# Altium footprint library NSC Audio.PcbLib: 145 footprints (part 9 of 10)
Each footprint in its own frame and in the unit in brackets; x right, y up, seen from the top. Pads: shape width x height; smd on the part's side, far side on the other; paste and mask are expansions set on the pad; w line width, h text height; cw(c..) or ccw(c..) is an arc to the next point about the centre after c.
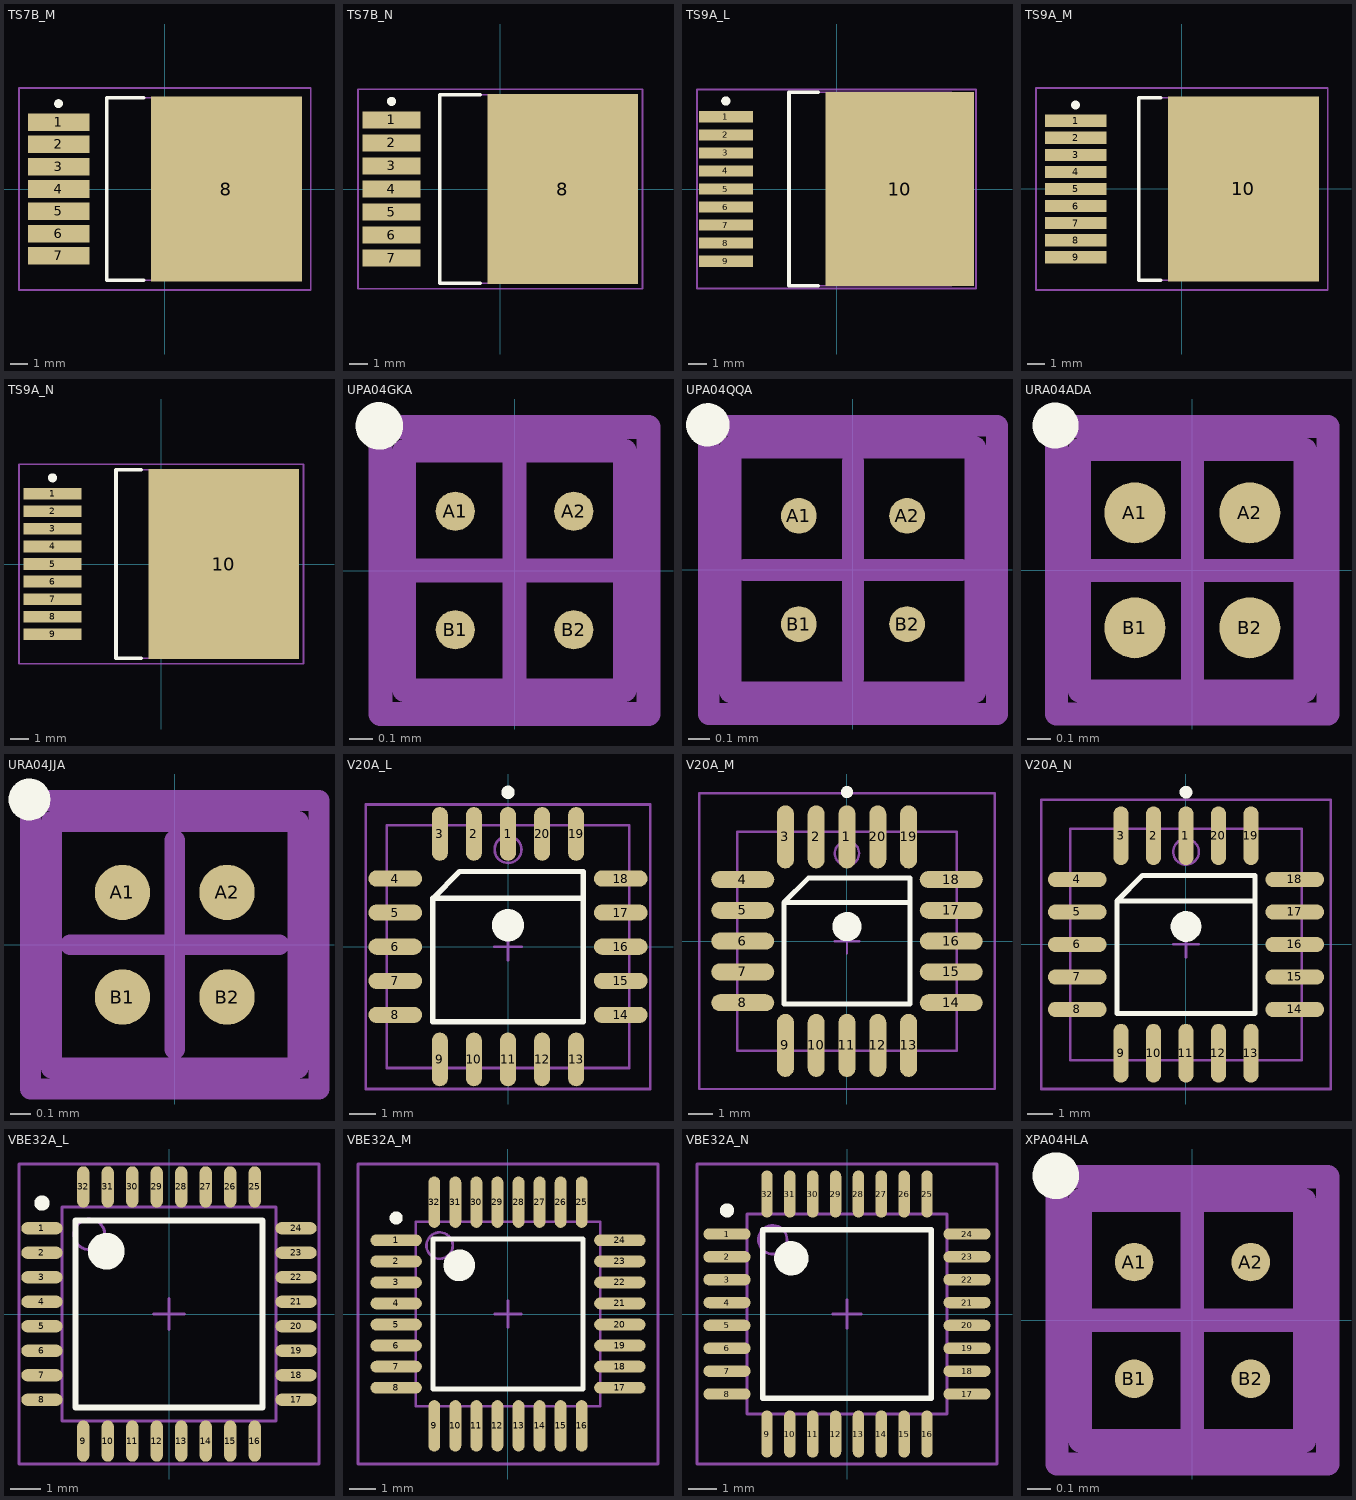
[diagram p8: the footprints below, top view; thin cyan lines are the x and y axes]

## TS7B_M [mm] "D2-PAK, 8-Leads, Body 8.6x10.2mm, Pitch 1.27mm, Lead Span 14.1mm, IPC Low Density"
height 4.64
pads (8):
  rect 3.5x1 smd: 1(-6.05,3.81) 2(-6.05,2.54) 3(-6.05,1.27) 4(-6.05,0) 5(-6.05,-1.27) 6(-6.05,-2.54) 7(-6.05,-3.81)
  rect 8.6x10.55 smd: 8(3.5,0)
Top Overlay:
  circle w0.25: c-6.05,4.86 r0.125
  lines w0.2: -1.2,-5.2 -3.3,-5.2 -3.3,5.2 -1.2,5.2
Mechanical 13:
  lines w0.1: -3.3,-5.2 -3.3,5.2 6.1,5.2 6.1,-5.2 -3.3,-5.2
Mechanical 15:
  lines w0.1: -0.5,0 0.5,0 ; 0,-0.5 0,0.5 ; -8.3,-5.75 -8.3,5.75 8.3,5.75 8.3,-5.75 -8.3,-5.75
3D body: height 4.64, standoff 0, extent -3.3,-5.2 6.1,5.2

## TS7B_N [mm] "D2-PAK, 8-Leads, Body 8.6x10.2mm, Pitch 1.27mm, Lead Span 14.1mm, IPC Medium Density"
height 4.64
pads (8):
  rect 3.2x0.95 smd: 1(-6,3.81) 2(-6,2.54) 3(-6,1.27) 4(-6,0) 5(-6,-1.27) 6(-6,-2.54) 7(-6,-3.81)
  rect 8.3x10.5 smd: 8(3.45,0)
Top Overlay:
  circle w0.25: c-6,4.835 r0.125
  lines w0.2: -1.1,-5.2 -3.35,-5.2 -3.35,5.2 -1.1,5.2
Mechanical 13:
  lines w0.1: -3.35,-5.2 -3.35,5.2 6.05,5.2 6.05,-5.2 -3.35,-5.2
Mechanical 15:
  lines w0.1: -0.5,0 0.5,0 ; 0,-0.5 0,0.5 ; -7.85,-5.5 -7.85,5.5 7.85,5.5 7.85,-5.5 -7.85,-5.5
3D body: height 4.64, standoff 0, extent -3.35,-5.2 6.05,5.2

## TS9A_L [mm] "D2-PAK, 10-Leads, Body 8.7x10.2mm, Pitch 0.97mm, Lead Span 14.1mm, IPC High Density"
height 4.62
pads (10):
  rect 2.9x0.6 smd: 1(-5.95,3.88) 2(-5.95,2.91) 3(-5.95,1.94) 4(-5.95,0.97) 5(-5.95,0) 6(-5.95,-0.97) 7(-5.95,-1.94) 8(-5.95,-2.91) 9(-5.95,-3.88)
  rect 8x10.45 smd: 10(3.4,0)
Top Overlay:
  circle w0.25: c-5.95,4.73 r0.125
  lines w0.2: -1,-5.2 -2.55,-5.2 -2.55,5.2 -1,5.2
Mechanical 13:
  lines w0.1: -2.55,-5.2 6.19,-5.2 6.19,5.2 -2.55,5.2 -2.55,-5.2
Mechanical 15:
  lines w0.1: -0.5,0 0.5,0 ; 0,-0.5 0,0.5 ; -7.5,-5.35 7.5,-5.35 7.5,5.35 -7.5,5.35 -7.5,-5.35
3D body: height 4.62, standoff 0, extent -2.55,-5.2 6.19,5.2

## TS9A_M [mm] "D2-PAK, 10-Leads, Body 8.7x10.2mm, Pitch 0.97mm, Lead Span 14.1mm, IPC Low Density"
height 4.62
pads (10):
  rect 3.5x0.7 smd: 1(-6.05,3.88) 2(-6.05,2.91) 3(-6.05,1.94) 4(-6.05,0.97) 5(-6.05,0) 6(-6.05,-0.97) 7(-6.05,-1.94) 8(-6.05,-2.91) 9(-6.05,-3.88)
  rect 8.6x10.55 smd: 10(3.5,0)
Top Overlay:
  circle w0.25: c-6.05,4.78 r0.125
  lines w0.2: -1.2,-5.2 -2.45,-5.2 -2.45,5.2 -1.2,5.2
Mechanical 13:
  lines w0.1: -2.45,-5.2 6.29,-5.2 6.29,5.2 -2.45,5.2 -2.45,-5.2
Mechanical 15:
  lines w0.1: -0.5,0 0.5,0 ; 0,-0.5 0,0.5 ; -8.3,-5.75 8.3,-5.75 8.3,5.75 -8.3,5.75 -8.3,-5.75
3D body: height 4.62, standoff 0, extent -2.45,-5.2 6.29,5.2

## TS9A_N [mm] "D2-PAK, 10-Leads, Body 8.7x10.2mm, Pitch 0.97mm, Lead Span 14.1mm, IPC Medium Density"
height 4.62
pads (10):
  rect 3.2x0.65 smd: 1(-6,3.88) 2(-6,2.91) 3(-6,1.94) 4(-6,0.97) 5(-6,0) 6(-6,-0.97) 7(-6,-1.94) 8(-6,-2.91) 9(-6,-3.88)
  rect 8.3x10.5 smd: 10(3.45,0)
Top Overlay:
  circle w0.25: c-6,4.755 r0.125
  lines w0.2: -1.1,-5.2 -2.5,-5.2 -2.5,5.2 -1.1,5.2
Mechanical 13:
  lines w0.1: -2.5,-5.2 6.24,-5.2 6.24,5.2 -2.5,5.2 -2.5,-5.2
Mechanical 15:
  lines w0.1: -0.5,0 0.5,0 ; 0,-0.5 0,0.5 ; -7.85,-5.5 7.85,-5.5 7.85,5.5 -7.85,5.5 -7.85,-5.5
3D body: height 4.62, standoff 0, extent -2.5,-5.2 6.24,5.2

## UPA04GKA [mm] "Micro SMD, 4-Leads, Body 1.01x0.93mm, Pitch 0.5mm, NSC Recommended"
height 0.4
pads (4):
  round 0.165 smd paste-0.082 mask+0.05: A1(-0.25,0.25) A2(0.25,0.25) B1(-0.25,-0.25) B2(0.25,-0.25)
Top Overlay:
  circle w0.1: c-0.57,0.61 r0.05
Top Paste:
  circle w0.05: c-0.175,0.175 r0.025
  circle w0.05: c-0.375,0.375 r0.025
  circle w0.05: c-0.175,0.375 r0.025
  circle w0.05: c-0.375,0.175 r0.025
  circle w0.05: c0.375,0.175 r0.025
  circle w0.05: c0.175,0.375 r0.025
  circle w0.05: c0.375,0.375 r0.025
  circle w0.05: c0.175,0.175 r0.025
  circle w0.05: c-0.175,-0.375 r0.025
  circle w0.05: c-0.375,-0.175 r0.025
  circle w0.05: c-0.175,-0.175 r0.025
  circle w0.05: c-0.375,-0.375 r0.025
  circle w0.05: c0.375,-0.375 r0.025
  circle w0.05: c0.175,-0.175 r0.025
  circle w0.05: c0.375,-0.175 r0.025
  circle w0.05: c0.175,-0.375 r0.025
  region: -0.175,0.375 -0.175,0.175 -0.125,0.175 -0.125,0.375
  region: -0.375,0.175 -0.375,0.375 -0.425,0.375 -0.425,0.175
  rectangle: -0.375,0.375 -0.175,0.425
  rectangle: -0.375,0.175 -0.175,0.375
  region: -0.175,0.175 -0.375,0.175 -0.375,0.125 -0.175,0.125
  region: 0.375,0.375 0.375,0.175 0.425,0.175 0.425,0.375
  region: 0.175,0.175 0.175,0.375 0.125,0.375 0.125,0.175
  rectangle: 0.175,0.375 0.375,0.425
  rectangle: 0.175,0.175 0.375,0.375
  region: 0.375,0.175 0.175,0.175 0.175,0.125 0.375,0.125
  region: -0.175,-0.175 -0.175,-0.375 -0.125,-0.375 -0.125,-0.175
  region: -0.375,-0.375 -0.375,-0.175 -0.425,-0.175 -0.425,-0.375
  rectangle: -0.375,-0.175 -0.175,-0.125
  rectangle: -0.375,-0.375 -0.175,-0.175
  region: -0.175,-0.375 -0.375,-0.375 -0.375,-0.425 -0.175,-0.425
  region: 0.375,-0.175 0.375,-0.375 0.425,-0.375 0.425,-0.175
  region: 0.175,-0.375 0.175,-0.175 0.125,-0.175 0.125,-0.375
  rectangle: 0.175,-0.175 0.375,-0.125
  rectangle: 0.175,-0.375 0.375,-0.175
  region: 0.375,-0.375 0.175,-0.375 0.175,-0.425 0.375,-0.425
Mechanical 13:
  lines w0.1: -0.465,-0.505 -0.465,0.505 0.465,0.505 0.465,-0.505 -0.465,-0.505
Mechanical 15:
  lines w0.1: -0.5,0 0.5,0 ; 0,-0.5 0,0.5 ; -0.565,-0.605 -0.565,0.605 0.565,0.605 0.565,-0.605 -0.565,-0.605
3D body: height 0.4, standoff 0, extent -0.465,-0.505 0.465,0.505

## UPA04QQA [mm] "Micro SMD, 4-Leads, Body 1.13x1.13mm, Pitch 0.5mm, NSC Recommended"
height 0.4
pads (4):
  round 0.165 smd paste-0.082 mask+0.05: A1(-0.25,0.25) A2(0.25,0.25) B1(-0.25,-0.25) B2(0.25,-0.25)
Top Overlay:
  circle w0.1: c-0.67,0.67 r0.05
Top Paste:
  circle w0.05: c0.175,-0.375 r0.025
  circle w0.05: c0.375,-0.175 r0.025
  circle w0.05: c0.175,-0.175 r0.025
  circle w0.05: c0.375,-0.375 r0.025
  circle w0.05: c-0.375,-0.375 r0.025
  circle w0.05: c-0.175,-0.175 r0.025
  circle w0.05: c-0.375,-0.175 r0.025
  circle w0.05: c-0.175,-0.375 r0.025
  circle w0.05: c0.175,0.175 r0.025
  circle w0.05: c0.375,0.375 r0.025
  circle w0.05: c0.175,0.375 r0.025
  circle w0.05: c0.375,0.175 r0.025
  circle w0.05: c-0.375,0.175 r0.025
  circle w0.05: c-0.175,0.375 r0.025
  circle w0.05: c-0.375,0.375 r0.025
  circle w0.05: c-0.175,0.175 r0.025
  region: 0.375,-0.375 0.175,-0.375 0.175,-0.425 0.375,-0.425
  rectangle: 0.175,-0.375 0.375,-0.175
  rectangle: 0.175,-0.175 0.375,-0.125
  region: 0.175,-0.375 0.175,-0.175 0.125,-0.175 0.125,-0.375
  region: 0.375,-0.175 0.375,-0.375 0.425,-0.375 0.425,-0.175
  region: -0.175,-0.375 -0.375,-0.375 -0.375,-0.425 -0.175,-0.425
  rectangle: -0.375,-0.375 -0.175,-0.175
  rectangle: -0.375,-0.175 -0.175,-0.125
  region: -0.375,-0.375 -0.375,-0.175 -0.425,-0.175 -0.425,-0.375
  region: -0.175,-0.175 -0.175,-0.375 -0.125,-0.375 -0.125,-0.175
  region: 0.375,0.175 0.175,0.175 0.175,0.125 0.375,0.125
  rectangle: 0.175,0.175 0.375,0.375
  rectangle: 0.175,0.375 0.375,0.425
  region: 0.175,0.175 0.175,0.375 0.125,0.375 0.125,0.175
  region: 0.375,0.375 0.375,0.175 0.425,0.175 0.425,0.375
  region: -0.175,0.175 -0.375,0.175 -0.375,0.125 -0.175,0.125
  rectangle: -0.375,0.175 -0.175,0.375
  rectangle: -0.375,0.375 -0.175,0.425
  region: -0.375,0.175 -0.375,0.375 -0.425,0.375 -0.425,0.175
  region: -0.175,0.375 -0.175,0.175 -0.125,0.175 -0.125,0.375
Mechanical 13:
  lines w0.1: -0.565,-0.565 0.565,-0.565 0.565,0.565 -0.565,0.565 -0.565,-0.565
Mechanical 15:
  lines w0.1: -0.5,0 0.5,0 ; 0,-0.5 0,0.5 ; -0.665,-0.665 0.665,-0.665 0.665,0.665 -0.665,0.665 -0.665,-0.665
3D body: height 0.4, standoff 0, extent -0.565,-0.565 0.565,0.565

## URA04ADA [mm] "Micro SMD, 4-Leads, Body 1.05x0.98mm, Pitch 0.5mm, NSC Recommended"
height 0.43
pads (4):
  round 0.265 smd paste-0.132 mask+0.05: A1(-0.25,0.25) A2(0.25,0.25) B1(-0.25,-0.25) B2(0.25,-0.25)
Top Overlay:
  circle w0.1: c-0.595,0.63 r0.05
Top Paste:
  circle w0.05: c0.2,-0.2 r0.025
  circle w0.05: c0.35,-0.35 r0.025
  circle w0.05: c0.35,-0.2 r0.025
  circle w0.05: c0.2,-0.35 r0.025
  circle w0.05: c-0.35,-0.2 r0.025
  circle w0.05: c-0.2,-0.35 r0.025
  circle w0.05: c-0.2,-0.2 r0.025
  circle w0.05: c-0.35,-0.35 r0.025
  circle w0.05: c0.2,0.35 r0.025
  circle w0.05: c0.35,0.2 r0.025
  circle w0.05: c0.35,0.35 r0.025
  circle w0.05: c0.2,0.2 r0.025
  circle w0.05: c-0.35,0.35 r0.025
  circle w0.05: c-0.2,0.2 r0.025
  circle w0.05: c-0.2,0.35 r0.025
  circle w0.05: c-0.35,0.2 r0.025
  region: 0.35,-0.35 0.2,-0.35 0.2,-0.4 0.35,-0.4
  region: 0.35,-0.2 0.35,-0.35 0.4,-0.35 0.4,-0.2
  rectangle: 0.2,-0.2 0.35,-0.15
  region: 0.2,-0.35 0.2,-0.2 0.15,-0.2 0.15,-0.35
  region: 0.2,-0.2 0.2,-0.35 0.35,-0.35 0.35,-0.2
  region: -0.2,-0.35 -0.35,-0.35 -0.35,-0.4 -0.2,-0.4
  region: -0.2,-0.2 -0.2,-0.35 -0.15,-0.35 -0.15,-0.2
  rectangle: -0.35,-0.2 -0.2,-0.15
  region: -0.35,-0.35 -0.35,-0.2 -0.4,-0.2 -0.4,-0.35
  region: -0.35,-0.2 -0.35,-0.35 -0.2,-0.35 -0.2,-0.2
  region: 0.35,0.2 0.2,0.2 0.2,0.15 0.35,0.15
  region: 0.35,0.35 0.35,0.2 0.4,0.2 0.4,0.35
  rectangle: 0.2,0.35 0.35,0.4
  region: 0.2,0.2 0.2,0.35 0.15,0.35 0.15,0.2
  region: 0.2,0.35 0.2,0.2 0.35,0.2 0.35,0.35
  region: -0.2,0.2 -0.35,0.2 -0.35,0.15 -0.2,0.15
  region: -0.2,0.35 -0.2,0.2 -0.15,0.2 -0.15,0.35
  rectangle: -0.35,0.35 -0.2,0.4
  region: -0.35,0.2 -0.35,0.35 -0.4,0.35 -0.4,0.2
  region: -0.35,0.35 -0.35,0.2 -0.2,0.2 -0.2,0.35
Mechanical 13:
  lines w0.1: -0.49,-0.525 0.49,-0.525 0.49,0.525 -0.49,0.525 -0.49,-0.525
Mechanical 15:
  lines w0.1: -0.5,0 0.5,0 ; 0,-0.5 0,0.5 ; -0.59,-0.625 0.59,-0.625 0.59,0.625 -0.59,0.625 -0.59,-0.625
3D body: height 0.43, standoff 0, extent -0.49,-0.525 0.49,0.525

## URA04JJA [mm] "Micro SMD, 4-Leads, Body 1.18x1.18mm, Pitch 0.5mm, NSC Recommended"
height 0.43
pads (4):
  round 0.265 smd paste-0.132 mask+0.05: A1(-0.25,0.25) A2(0.25,0.25) B1(-0.25,-0.25) B2(0.25,-0.25)
Top Overlay:
  circle w0.1: c-0.695,0.695 r0.05
Top Paste:
  circle w0.05: c-0.35,0.2 r0.025
  circle w0.05: c-0.2,0.35 r0.025
  circle w0.05: c-0.2,0.2 r0.025
  circle w0.05: c-0.35,0.35 r0.025
  circle w0.05: c0.2,0.2 r0.025
  circle w0.05: c0.35,0.35 r0.025
  circle w0.05: c0.35,0.2 r0.025
  circle w0.05: c0.2,0.35 r0.025
  circle w0.05: c-0.35,-0.35 r0.025
  circle w0.05: c-0.2,-0.2 r0.025
  circle w0.05: c-0.2,-0.35 r0.025
  circle w0.05: c-0.35,-0.2 r0.025
  circle w0.05: c0.2,-0.35 r0.025
  circle w0.05: c0.35,-0.2 r0.025
  circle w0.05: c0.35,-0.35 r0.025
  circle w0.05: c0.2,-0.2 r0.025
  region: -0.35,0.35 -0.35,0.2 -0.2,0.2 -0.2,0.35
  region: -0.35,0.2 -0.35,0.35 -0.4,0.35 -0.4,0.2
  rectangle: -0.35,0.35 -0.2,0.4
  region: -0.2,0.35 -0.2,0.2 -0.15,0.2 -0.15,0.35
  region: -0.2,0.2 -0.35,0.2 -0.35,0.15 -0.2,0.15
  region: 0.2,0.35 0.2,0.2 0.35,0.2 0.35,0.35
  region: 0.2,0.2 0.2,0.35 0.15,0.35 0.15,0.2
  rectangle: 0.2,0.35 0.35,0.4
  region: 0.35,0.35 0.35,0.2 0.4,0.2 0.4,0.35
  region: 0.35,0.2 0.2,0.2 0.2,0.15 0.35,0.15
  region: -0.35,-0.2 -0.35,-0.35 -0.2,-0.35 -0.2,-0.2
  region: -0.35,-0.35 -0.35,-0.2 -0.4,-0.2 -0.4,-0.35
  rectangle: -0.35,-0.2 -0.2,-0.15
  region: -0.2,-0.2 -0.2,-0.35 -0.15,-0.35 -0.15,-0.2
  region: -0.2,-0.35 -0.35,-0.35 -0.35,-0.4 -0.2,-0.4
  region: 0.2,-0.2 0.2,-0.35 0.35,-0.35 0.35,-0.2
  region: 0.2,-0.35 0.2,-0.2 0.15,-0.2 0.15,-0.35
  rectangle: 0.2,-0.2 0.35,-0.15
  region: 0.35,-0.2 0.35,-0.35 0.4,-0.35 0.4,-0.2
  region: 0.35,-0.35 0.2,-0.35 0.2,-0.4 0.35,-0.4
Mechanical 13:
  lines w0.1: -0.59,-0.59 -0.59,0.59 0.59,0.59 0.59,-0.59 -0.59,-0.59
Mechanical 15:
  lines w0.1: -0.5,0 0.5,0 ; 0,-0.5 0,0.5 ; -0.69,-0.69 -0.69,0.69 0.69,0.69 0.69,-0.69 -0.69,-0.69
3D body: height 0.43, standoff 0, extent -0.59,-0.59 0.59,0.59

## V20A_L [mm] "Leaded Chip Carrier, 20-Leads, Body 9x9mm, Pitch 1.27mm, IPC High Density"
height 4.57
pads (20):
  oval 0.6x2 smd: 1(0,4.2) 2(-1.27,4.2) 3(-2.54,4.2) 9(-2.54,-4.2) 10(-1.27,-4.2) 11(0,-4.2) 12(1.27,-4.2) 13(2.54,-4.2) 19(2.54,4.2) 20(1.27,4.2)
  oval 2x0.6 smd: 4(-4.2,2.54) 5(-4.2,1.27) 6(-4.2,0) 7(-4.2,-1.27) 8(-4.2,-2.54) 14(4.2,-2.54) 15(4.2,-1.27) 16(4.2,0) 17(4.2,1.27) 18(4.2,2.54)
Top Overlay:
  circle w0.6: c0,0.8 r0.3
  circle w0.25: c0,5.75 r0.125
  lines w0.2: 2.8,1.8 -2.8,1.8 ; -2.8,1.8 -2.8,-2.8 2.8,-2.8 2.8,2.8 -1.8,2.8 -2.8,1.8
Mechanical 13:
  circle w0.1: c0,3.62 r0.5
  lines w0.1: -4.52,-4.52 4.52,-4.52 4.52,4.52 -4.52,4.52 -4.52,-4.52
Mechanical 15:
  lines w0.1: -0.5,0 0.5,0 ; 0,-0.5 0,0.5 ; -5.3,-5.3 5.3,-5.3 5.3,5.3 -5.3,5.3 -5.3,-5.3
3D body: height 4.57, standoff 0, extent -4.52,-4.52 4.52,4.52

## V20A_M [mm] "Leaded Chip Carrier, 20-Leads, Body 9x9mm, Pitch 1.27mm, IPC Low Density"
height 4.57
pads (20):
  oval 0.7x2.6 smd: 1(0,4.3) 2(-1.27,4.3) 3(-2.54,4.3) 9(-2.54,-4.3) 10(-1.27,-4.3) 11(0,-4.3) 12(1.27,-4.3) 13(2.54,-4.3) 19(2.54,4.3) 20(1.27,4.3)
  oval 2.6x0.7 smd: 4(-4.3,2.54) 5(-4.3,1.27) 6(-4.3,0) 7(-4.3,-1.27) 8(-4.3,-2.54) 14(4.3,-2.54) 15(4.3,-1.27) 16(4.3,0) 17(4.3,1.27) 18(4.3,2.54)
Top Overlay:
  circle w0.6: c0,0.6 r0.3
  circle w0.25: c0,6.15 r0.125
  lines w0.2: 2.6,1.6 -2.6,1.6 ; -2.6,1.6 -2.6,-2.6 2.6,-2.6 2.6,2.6 -1.6,2.6 -2.6,1.6
Mechanical 13:
  circle w0.1: c0,3.62 r0.5
  lines w0.1: -4.52,-4.52 4.52,-4.52 4.52,4.52 -4.52,4.52 -4.52,-4.52
Mechanical 15:
  lines w0.1: -0.5,0 0.5,0 ; 0,-0.5 0,0.5 ; -6.1,-6.1 6.1,-6.1 6.1,6.1 -6.1,6.1 -6.1,-6.1
3D body: height 4.57, standoff 0, extent -4.52,-4.52 4.52,4.52

## V20A_N [mm] "Leaded Chip Carrier, 20-Leads, Body 9x9mm, Pitch 1.27mm, IPC Medium Density"
height 4.57
pads (20):
  oval 0.6x2.3 smd: 1(0,4.25) 2(-1.27,4.25) 3(-2.54,4.25) 9(-2.54,-4.25) 10(-1.27,-4.25) 11(0,-4.25) 12(1.27,-4.25) 13(2.54,-4.25) 19(2.54,4.25) 20(1.27,4.25)
  oval 2.3x0.6 smd: 4(-4.25,2.54) 5(-4.25,1.27) 6(-4.25,0) 7(-4.25,-1.27) 8(-4.25,-2.54) 14(4.25,-2.54) 15(4.25,-1.27) 16(4.25,0) 17(4.25,1.27) 18(4.25,2.54)
Top Overlay:
  circle w0.25: c0,5.95 r0.125
  circle w0.6: c0,0.7 r0.3
  lines w0.2: 2.7,1.7 -2.7,1.7 ; -2.7,1.7 -1.7,2.7 2.7,2.7 2.7,-2.7 -2.7,-2.7 -2.7,1.7
Mechanical 13:
  circle w0.1: c0,3.62 r0.5
  lines w0.1: -4.52,-4.52 -4.52,4.52 4.52,4.52 4.52,-4.52 -4.52,-4.52
Mechanical 15:
  lines w0.1: -0.5,0 0.5,0 ; 0,-0.5 0,0.5 ; -5.65,-5.65 -5.65,5.65 5.65,5.65 5.65,-5.65 -5.65,-5.65
3D body: height 4.57, standoff 0, extent -4.52,-4.52 4.52,4.52

## VBE32A_L [mm] "Thin QFP, 32-Leads, Body 7x7mm, Pitch 0.8mm, IPC High Density"
height 1.6
pads (32):
  oval 1.35x0.4 smd: 1(-4.15,2.8) 2(-4.15,2) 3(-4.15,1.2) 4(-4.15,0.4) 5(-4.15,-0.4) 6(-4.15,-1.2) 7(-4.15,-2) 8(-4.15,-2.8) 17(4.15,-2.8) 18(4.15,-2) 19(4.15,-1.2) 20(4.15,-0.4) 21(4.15,0.4) 22(4.15,1.2) 23(4.15,2) 24(4.15,2.8)
  oval 0.4x1.35 smd: 9(-2.8,-4.15) 10(-2,-4.15) 11(-1.2,-4.15) 12(-0.4,-4.15) 13(0.4,-4.15) 14(1.2,-4.15) 15(2,-4.15) 16(2.8,-4.15) 25(2.8,4.15) 26(2,4.15) 27(1.2,4.15) 28(0.4,4.15) 29(-0.4,4.15) 30(-1.2,4.15) 31(-2,4.15) 32(-2.8,4.15)
Top Overlay:
  circle w0.6: c-2.05,2.05 r0.3
  circle w0.25: c-4.15,3.625 r0.125
  lines w0.2: -3.05,-3.05 3.05,-3.05 3.05,3.05 -3.05,3.05 -3.05,-3.05
Mechanical 13:
  circle w0.1: c-2.6,2.6 r0.5
  lines w0.1: -3.5,-3.5 3.5,-3.5 3.5,3.5 -3.5,3.5 -3.5,-3.5
Mechanical 15:
  lines w0.1: -0.5,0 0.5,0 ; 0,-0.5 0,0.5 ; -4.9,-4.9 4.9,-4.9 4.9,4.9 -4.9,4.9 -4.9,-4.9
3D body: height 1.6, standoff 0, extent -3.5,-3.5 3.5,3.5

## VBE32A_M [mm] "Thin QFP, 32-Leads, Body 7x7mm, Pitch 0.8mm, IPC Low Density"
height 1.6
pads (32):
  oval 1.95x0.45 smd: 1(-4.25,2.8) 2(-4.25,2) 3(-4.25,1.2) 4(-4.25,0.4) 5(-4.25,-0.4) 6(-4.25,-1.2) 7(-4.25,-2) 8(-4.25,-2.8) 17(4.25,-2.8) 18(4.25,-2) 19(4.25,-1.2) 20(4.25,-0.4) 21(4.25,0.4) 22(4.25,1.2) 23(4.25,2) 24(4.25,2.8)
  oval 0.45x1.95 smd: 9(-2.8,-4.25) 10(-2,-4.25) 11(-1.2,-4.25) 12(-0.4,-4.25) 13(0.4,-4.25) 14(1.2,-4.25) 15(2,-4.25) 16(2.8,-4.25) 25(2.8,4.25) 26(2,4.25) 27(1.2,4.25) 28(0.4,4.25) 29(-0.4,4.25) 30(-1.2,4.25) 31(-2,4.25) 32(-2.8,4.25)
Top Overlay:
  circle w0.25: c-4.25,3.65 r0.125
  circle w0.6: c-1.85,1.85 r0.3
  lines w0.2: -2.85,-2.85 -2.85,2.85 2.85,2.85 2.85,-2.85 -2.85,-2.85
Mechanical 13:
  circle w0.1: c-2.6,2.6 r0.5
  lines w0.1: -3.5,-3.5 -3.5,3.5 3.5,3.5 3.5,-3.5 -3.5,-3.5
Mechanical 15:
  lines w0.1: -0.5,0 0.5,0 ; 0,-0.5 0,0.5 ; -5.7,-5.7 -5.7,5.7 5.7,5.7 5.7,-5.7 -5.7,-5.7
3D body: height 1.6, standoff 0, extent -3.5,-3.5 3.5,3.5

## VBE32A_N [mm] "Thin QFP, 32-Leads, Body 7x7mm, Pitch 0.8mm, IPC Medium Density"
height 1.6
pads (32):
  oval 1.65x0.4 smd: 1(-4.2,2.8) 2(-4.2,2) 3(-4.2,1.2) 4(-4.2,0.4) 5(-4.2,-0.4) 6(-4.2,-1.2) 7(-4.2,-2) 8(-4.2,-2.8) 17(4.2,-2.8) 18(4.2,-2) 19(4.2,-1.2) 20(4.2,-0.4) 21(4.2,0.4) 22(4.2,1.2) 23(4.2,2) 24(4.2,2.8)
  oval 0.4x1.65 smd: 9(-2.8,-4.2) 10(-2,-4.2) 11(-1.2,-4.2) 12(-0.4,-4.2) 13(0.4,-4.2) 14(1.2,-4.2) 15(2,-4.2) 16(2.8,-4.2) 25(2.8,4.2) 26(2,4.2) 27(1.2,4.2) 28(0.4,4.2) 29(-0.4,4.2) 30(-1.2,4.2) 31(-2,4.2) 32(-2.8,4.2)
Top Overlay:
  circle w0.6: c-1.95,1.95 r0.3
  circle w0.25: c-4.2,3.625 r0.125
  lines w0.2: -2.95,-2.95 2.95,-2.95 2.95,2.95 -2.95,2.95 -2.95,-2.95
Mechanical 13:
  circle w0.1: c-2.6,2.6 r0.5
  lines w0.1: -3.5,-3.5 3.5,-3.5 3.5,3.5 -3.5,3.5 -3.5,-3.5
Mechanical 15:
  lines w0.1: -0.5,0 0.5,0 ; 0,-0.5 0,0.5 ; -5.25,-5.25 5.25,-5.25 5.25,5.25 -5.25,5.25 -5.25,-5.25
3D body: height 1.6, standoff 0, extent -3.5,-3.5 3.5,3.5

## XPA04HLA [mm] "Micro SMD, 4-Leads, Body 1.03x0.96mm, Pitch 0.5mm, NSC Recommended"
height 0.3
pads (4):
  round 0.165 smd paste-0.082 mask+0.05: A1(-0.25,0.25) A2(0.25,0.25) B1(-0.25,-0.25) B2(0.25,-0.25)
Top Overlay:
  circle w0.1: c-0.585,0.62 r0.05
Top Paste:
  circle w0.05: c-0.175,0.175 r0.025
  circle w0.05: c-0.375,0.375 r0.025
  circle w0.05: c-0.175,0.375 r0.025
  circle w0.05: c-0.375,0.175 r0.025
  circle w0.05: c0.375,0.175 r0.025
  circle w0.05: c0.175,0.375 r0.025
  circle w0.05: c0.375,0.375 r0.025
  circle w0.05: c0.175,0.175 r0.025
  circle w0.05: c-0.175,-0.375 r0.025
  circle w0.05: c-0.375,-0.175 r0.025
  circle w0.05: c-0.175,-0.175 r0.025
  circle w0.05: c-0.375,-0.375 r0.025
  circle w0.05: c0.375,-0.375 r0.025
  circle w0.05: c0.175,-0.175 r0.025
  circle w0.05: c0.375,-0.175 r0.025
  circle w0.05: c0.175,-0.375 r0.025
  region: -0.175,0.375 -0.175,0.175 -0.125,0.175 -0.125,0.375
  region: -0.375,0.175 -0.375,0.375 -0.425,0.375 -0.425,0.175
  rectangle: -0.375,0.375 -0.175,0.425
  rectangle: -0.375,0.175 -0.175,0.375
  region: -0.175,0.175 -0.375,0.175 -0.375,0.125 -0.175,0.125
  region: 0.375,0.375 0.375,0.175 0.425,0.175 0.425,0.375
  region: 0.175,0.175 0.175,0.375 0.125,0.375 0.125,0.175
  rectangle: 0.175,0.375 0.375,0.425
  rectangle: 0.175,0.175 0.375,0.375
  region: 0.375,0.175 0.175,0.175 0.175,0.125 0.375,0.125
  region: -0.175,-0.175 -0.175,-0.375 -0.125,-0.375 -0.125,-0.175
  region: -0.375,-0.375 -0.375,-0.175 -0.425,-0.175 -0.425,-0.375
  rectangle: -0.375,-0.175 -0.175,-0.125
  rectangle: -0.375,-0.375 -0.175,-0.175
  region: -0.175,-0.375 -0.375,-0.375 -0.375,-0.425 -0.175,-0.425
  region: 0.375,-0.175 0.375,-0.375 0.425,-0.375 0.425,-0.175
  region: 0.175,-0.375 0.175,-0.175 0.125,-0.175 0.125,-0.375
  rectangle: 0.175,-0.175 0.375,-0.125
  rectangle: 0.175,-0.375 0.375,-0.175
  region: 0.375,-0.375 0.175,-0.375 0.175,-0.425 0.375,-0.425
Mechanical 13:
  lines w0.1: -0.48,-0.515 -0.48,0.515 0.48,0.515 0.48,-0.515 -0.48,-0.515
Mechanical 15:
  lines w0.1: -0.5,0 0.5,0 ; 0,-0.5 0,0.5 ; -0.58,-0.615 -0.58,0.615 0.58,0.615 0.58,-0.615 -0.58,-0.615
3D body: height 0.3, standoff 0, extent -0.48,-0.515 0.48,0.515